# Altium footprint library CON FLE-109.PcbLib: 1 footprints
Each footprint in its own frame and in the unit in brackets; x right, y up, seen from the top. Pads: shape width x height; smd on the part's side, far side on the other; paste and mask are expansions set on the pad; w line width, h text height; cw(c..) or ccw(c..) is an arc to the next point about the centre after c.
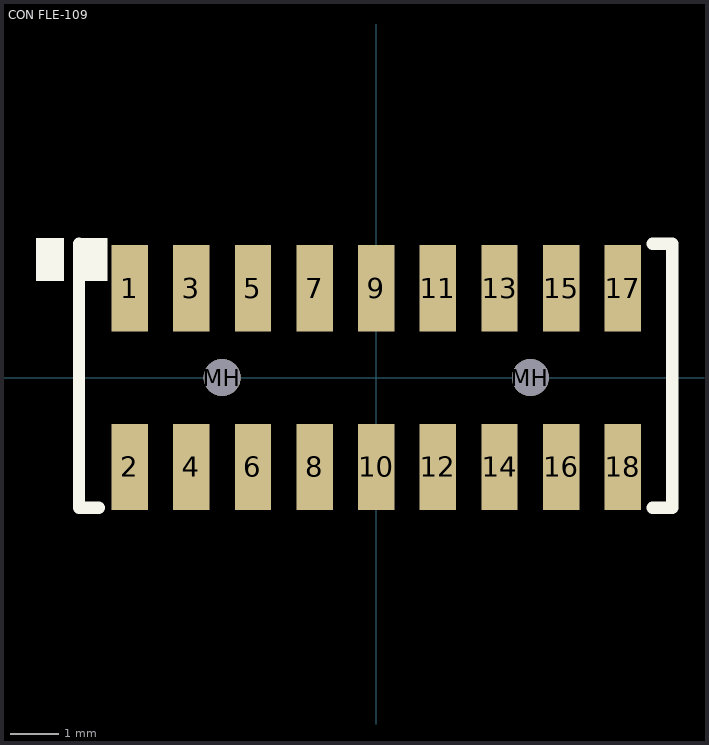
[diagram p0: the footprint, top view; thin cyan lines are the x and y axes]

## CON FLE-109 [mil] "Samtec FLE-107 Surface Mount Connector"
height 78.74
pads (20):
  rect 29.53x70 smd: 1(-200,72.5) 2(-200,-72.5) 3(-150,72.5) 4(-150,-72.5) 5(-100,72.5) 6(-100,-72.5) 7(-50,72.5) 8(-50,-72.5) 9(0,72.5) 10(0,-72.5) 11(50,72.5) 12(50,-72.5) 13(100,72.5) 14(100,-72.5) 15(150,72.5) 16(150,-72.5) 17(200,72.5) 18(200,-72.5)
  round 30 hole 30 unplated: MH(-125,0) MH(125,0)
TopOverlay:
  rectangle: -276.2,78.3 -253.5,113.1
  rectangle: -241.2,78.4 -217.9,113.3
  lines w10: -241.1,108.5 -241.1,-105.5 -225.1,-105.5 ; 224.1,-105.5 240.1,-105.5 240.1,108.5 224.1,108.5
3D body: height 179.6, standoff 0.6, extent -177.25,-90 177.25,91